# Altium footprint library LED_GROUP.PcbLib: 2 footprints
Each footprint in its own frame and in the unit in brackets; x right, y up, seen from the top. Pads: shape width x height; smd on the part's side, far side on the other; paste and mask are expansions set on the pad; w line width, h text height; cw(c..) or ccw(c..) is an arc to the next point about the centre after c.
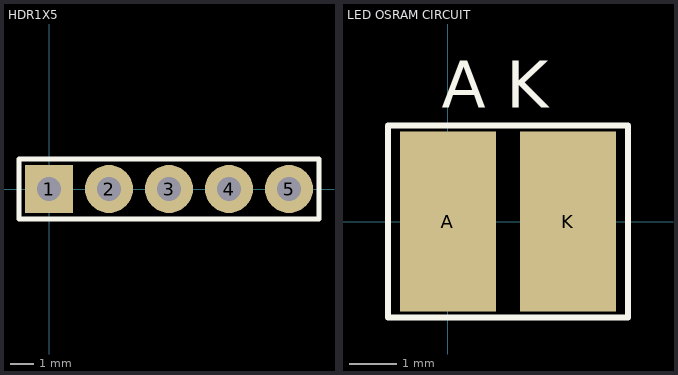
[diagram p0: the footprints below, top view; thin cyan lines are the x and y axes]

## HDR1X5 [mil] "Connector; Header; 5 Position"
height 275.59
pads (5):
  rect 80x80 hole 40: 1(0,0)
  round 80 hole 40: 2(100,0) 3(200,0) 4(300,0) 5(400,0)
Top Overlay:
  lines w7.87: -50,-50 450,-50 450,50 -50,50 -50,-50

## LED OSRAM CIRCUIT [mil]
pads (2):
  rect 80x150 smd: A(0,0) K(100,0)
Top Overlay:
  lines w5: -50,-80 150,-80 150,80 -50,80 -50,-80
  text "A K" at -5,95 h39.37
3D body "LED OSRAM.step": height 25.7, standoff -986.17, extent -137.5,-194 237.5,-9.75